# EAGLE library part POLOLU_D24V150F6_STEPDOWN_15A_6V (library arcs_library)
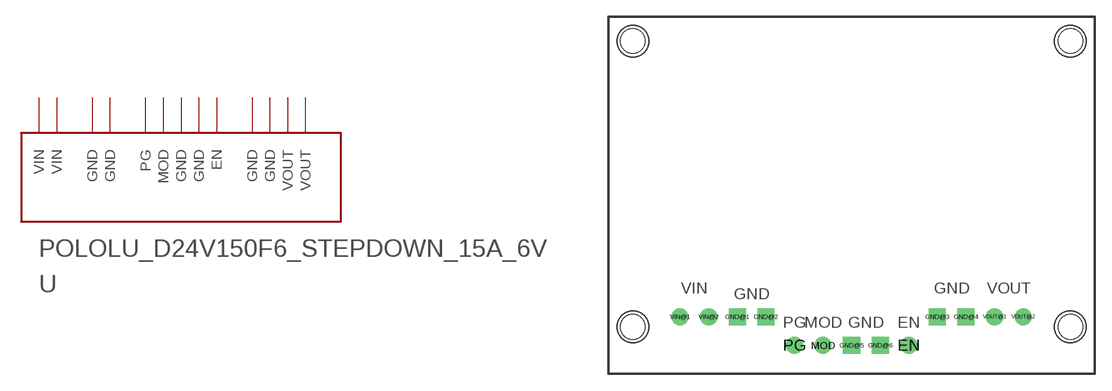
[diagram p9: symbol with the pads of POLOLU_D24V150F6_STEPDOWN_15A_6V; footprint POLOLU_D24V150F6_STEPDOWN_15A_6V]

Designator prefix -

## POLOLU_D24V150F6_STEPDOWN_15A_6V  [POLOLU_D24V150F6_STEPDOWN_15A_6V]
EN  EN
GND@1  GND
GND@2  GND
GND@3  GND
GND@4  GND
GND@5  GND
GND@6  GND
MOD  MOD
PG  PG
VIN@1  VIN
VIN@2  VIN
VOUT@1  VOUT
VOUT@2  VOUT

## Footprint POLOLU_D24V150F6_STEPDOWN_15A_6V (pad centres in mm)
drill 1.016: EN 26.67,2.54; MOD 19.05,2.54; PG 16.51,2.54; VIN@1 6.35,5.08; VIN@2 8.89,5.08; VOUT@1 34.29,5.08; VOUT@2 36.83,5.08
drill 1.016 square: GND@1 11.43,5.08; GND@2 13.97,5.08; GND@3 29.21,5.08; GND@4 31.75,5.08; GND@5 21.59,2.54; GND@6 24.13,2.54
hole 2.184 at 2.159,4.191
hole 2.184 at 2.159,29.591
hole 2.184 at 41.021,29.591
hole 2.184 at 41.021,4.191